# EAGLE library part STD_SERVOS_3X6 (library rhoban)
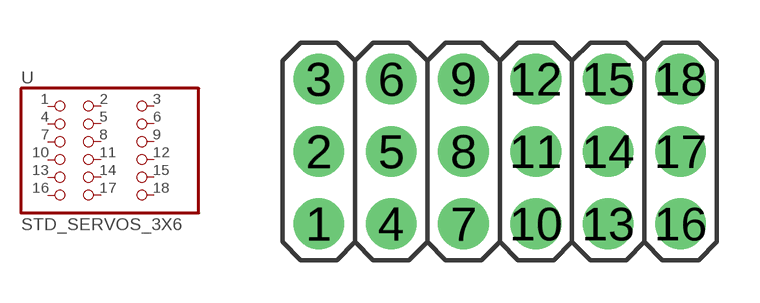
[diagram p2: symbol with the pads of STD_SERVOS_3X6; footprint STD_SERVOS_3X6]

Designator prefix -

## STD_SERVOS_3X6  [STD_SERVOS_3X6]
1  1  pas
2  2  pas
3  3  pas
4  4  pas
5  5  pas
6  6  pas
7  7  pas
8  8  pas
9  9  pas
10  10  pas
11  11  pas
12  12  pas
13  13  pas
14  14  pas
15  15  pas
16  16  pas
17  17  pas
18  18  pas

## Footprint STD_SERVOS_3X6 (pad centres in mm)
drill 1 pad 1.778: 1 -6.35,-1.27; 2 -6.35,1.27; 3 -6.35,3.81; 4 -3.81,-1.27; 5 -3.81,1.27; 6 -3.81,3.81; 7 -1.27,-1.27; 8 -1.27,1.27; 9 -1.27,3.81; 10 1.27,-1.27; 11 1.27,1.27; 12 1.27,3.81; 13 3.81,-1.27; 14 3.81,1.27; 15 3.81,3.81; 16 6.35,-1.27; 17 6.35,1.27; 18 6.35,3.81